# Altium footprint library FootprintsLib.PcbLib: 11 footprints
Each footprint in its own frame and in the unit in brackets; x right, y up, seen from the top. Pads: shape width x height; smd on the part's side, far side on the other; paste and mask are expansions set on the pad; w line width, h text height; cw(c..) or ccw(c..) is an arc to the next point about the centre after c.
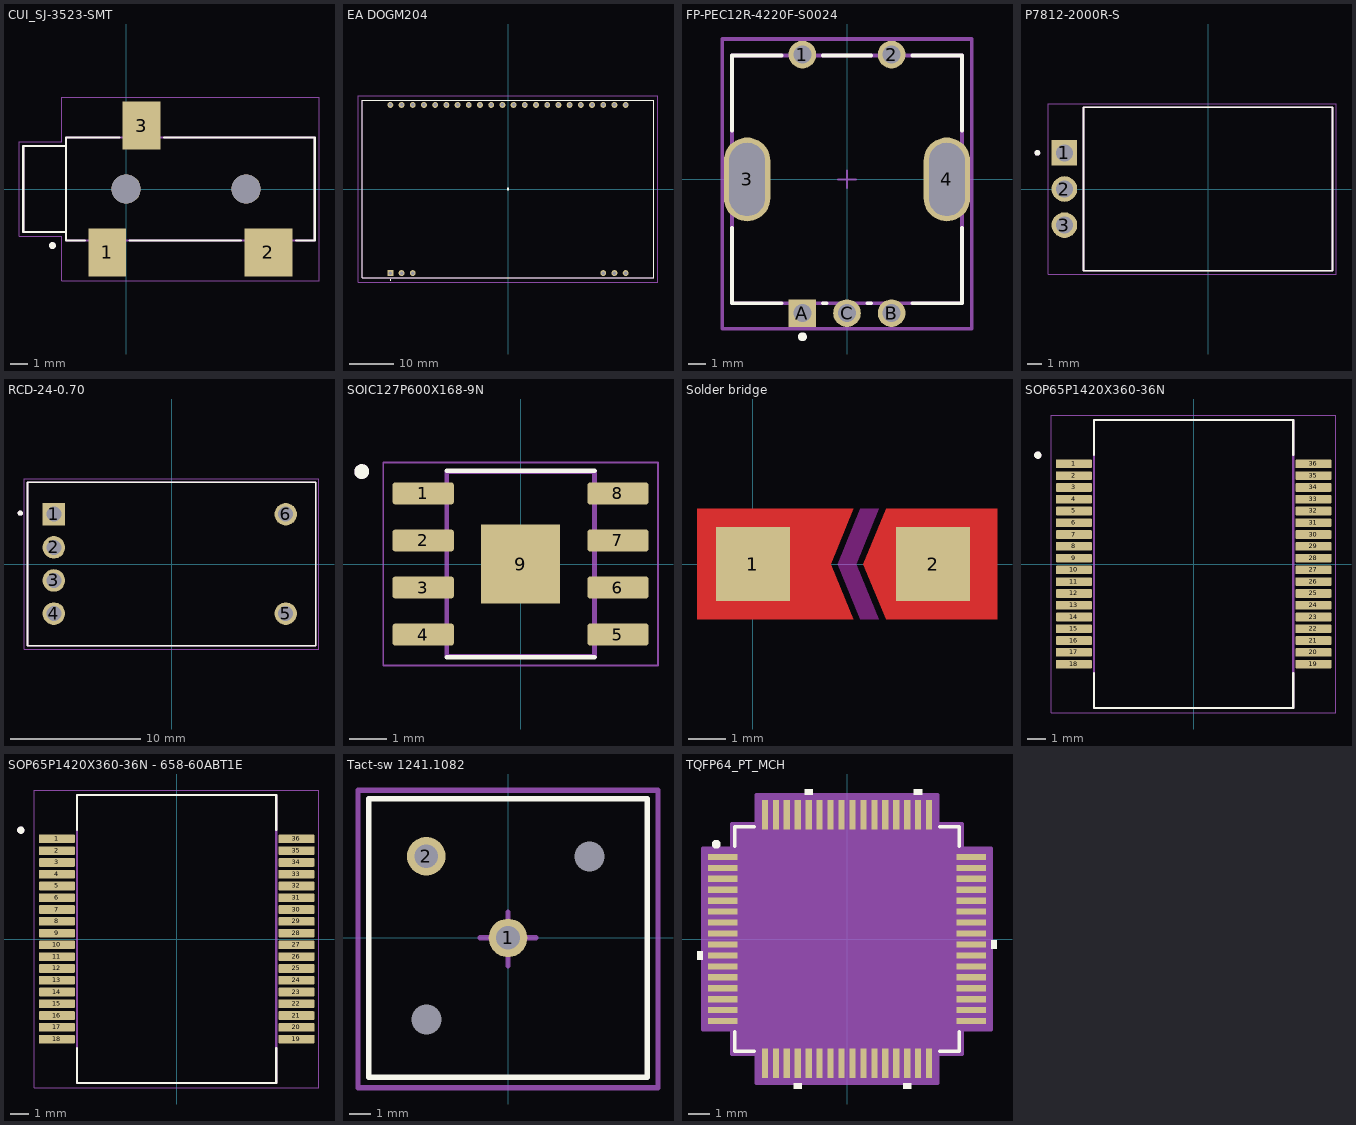
[diagram p0: the footprints below, top view; thin cyan lines are the x and y axes]

## CUI_SJ-3523-SMT [mm]
pads (5):
  rect 2.2x2.8 smd: 1(-1.1,-3.7) 3(0.9,3.7)
  rect 2.8x2.8 smd: 2(8.3,-3.7)
  round 1.7 hole 1.7 unplated: ""(0,0) ""(7,0)
Top Overlay:
  circle w0.2: c-4.3,-3.3 r0.1
  lines w0.127: -2.4,-3 -3.5,-3 -3.5,-2.5 ; -0.4,3 -3.5,3 -3.5,2.5 ; 0.2,-3 6.7,-3 ; 2.2,3 11,3 11,-3 9.9,-3 ; -3.5,-2.5 -6,-2.5 -6,2.5 -3.5,2.5 ; -3.5,-2.5 -3.5,2.5
Mechanical 13:
  circle w0.2: c-4.3,-3.3 r0.1
  lines w0.127: -3.5,-2.5 -6,-2.5 -6,2.5 -3.5,2.5 ; -3.5,-3 11,-3 11,3 -3.5,3 -3.5,-3
Mechanical 15:
  lines w0.05: -6.25,-2.75 -3.75,-2.75 -3.75,-5.35 11.25,-5.35 11.25,5.35 -3.75,5.35 -3.75,2.75 -6.25,2.75 -6.25,-2.75
3D body "SJ-3523-SMT--3DModel-STEP-56544.STEP": height 5.17, standoff -0.63, extent -5.96,-4.428 11.04,4.572

## EA DOGM204 [mm]
pads (28):
  rect 1.337x1.337 hole 0.78: 1(-26.67,-19.05)
  round 1.337 hole 0.78: 2(-24.13,-19.05) 3(-21.59,-19.05) 20(21.59,-19.05) 21(24.13,-19.05) 22(26.67,-19.05) 23(26.67,19.05) 24(24.13,19.05) 25(21.59,19.05) 26(19.05,19.05) 27(16.51,19.05) 28(13.97,19.05) 29(11.43,19.05) 30(8.89,19.05) 31(6.35,19.05) 32(3.81,19.05) 33(1.27,19.05) 34(-1.27,19.05) 35(-3.81,19.05) 36(-6.35,19.05) 37(-8.89,19.05) 38(-11.43,19.05) 39(-13.97,19.05) 40(-16.51,19.05) 41(-19.05,19.05) 42(-21.59,19.05) 43(-24.13,19.05) 44(-26.67,19.05)
Top Overlay:
  circle w0.254: c0,0 r0.203
  lines w0.1: -26.67,-20.65 cw(c-26.67,-20.6) -26.67,-20.55 cw(c-26.67,-20.6) -26.67,-20.65
  lines w0.2: -33,-20.1 -33,20.1 33,20.1 33,-20.1 -33,-20.1
Mechanical 13:
  lines w0.1: -33,-20.1 33,-20.1 33,20.1 -33,20.1 -33,-20.1
Mechanical 15:
  lines w0.1: -34,-21.1 34,-21.1 34,21.1 -34,21.1 -34,-21.1
3D body "User Library-EA DOGM204-A.step": height 5.7, standoff -3.3, extent -32.97,-19.2 33.83,19.35
3D body: height 3.6, standoff 0, extent -33,-18.025 33,17.9

## FP-PEC12R-4220F-S0024 [mm] "PEC12 OEDNI-50-3-7 knob"
pads (7):
  round 1.55 hole 1 paste-1000 mask+0: 1(-2.5,7) 2(2.5,7) B(2.5,-7.5) C(0,-7.5)
  rrect100% 2.6x4.7 hole 4.1 slot 2 at 0 deg paste-1000 mask+0: 3(-5.6,0) 4(5.6,0)
  rect 1.55x1.55 hole 1 paste-1000 mask+0: A(-2.5,-7.5)
Top Overlay:
  circle w0.25: c-2.5,-8.825 r0.125
  lines w0.2: -6.45,-2.725 -6.45,-6.95 -3.65,-6.95 ; -6.45,2.725 -6.45,6.95 -3.65,6.95 ; -1.35,-6.95 -1.15,-6.95 ; -1.35,6.95 1.35,6.95 ; 1.15,-6.95 1.35,-6.95 ; 3.65,-6.95 6.45,-6.95 6.45,-2.725 ; 3.65,6.95 6.45,6.95 6.45,2.725
Top Assembly:
  lines w0.2: -7,-8.375 7,-8.375 7,7.875 -7,7.875 -7,-8.375
  text ".Designator" at 0,-0.062 h1
Top Courtyard:
  lines w0.2: -7,-8.375 7,-8.375 7,7.875 -7,7.875 -7,-8.375
Top 3D Body:
  lines w0.2: -6.45,-6.95 6.45,-6.95 6.45,6.95 -6.45,6.95 -6.45,-6.95
Top Component Center:
  lines w0.1: -0.5,0 0.5,0 ; 0,-0.5 0,0.5
3D body "OEDNI-50-3-7.step": height 23.49, standoff 7.62, extent -6.35,-6.35 6.35,6.35
3D body "Enc_Bourns_PEC12R-4220F-S0024_eec.STEP": height 0.25, standoff 0, extent -7,-8.375 7,7.875

## P7812-2000R-S [mm]
pads (3):
  rect 1.8x1.8 / inner round 1.8 / far side rect 1.8x1.8 hole 1.2: 1(-10.1,2.54)
  round 1.8 hole 1.2: 2(-10.1,0) 3(-10.1,-2.54)
Top Overlay:
  circle w0.2: c-12,2.54 r0.1
  lines w0.127: -8.75,-5.75 -8.75,5.75 8.75,5.75 8.75,-5.75 -8.75,-5.75
Mechanical 13:
  circle w0.2: c-12,2.54 r0.1
  lines w0.127: -8.75,-5.75 -8.75,5.75 8.75,5.75 8.75,-5.75 -8.75,-5.75
Mechanical 15:
  lines w0.05: -11.25,-6 -11.25,6 9,6 9,-6 -11.25,-6
3D body "CUI_P7805-2000R-S.step": height 9.05, standoff -4.06, extent -10.25,-5.75 8.75,5.75

## RCD-24-0.70 [mm]
pads (6):
  rect 1.725x1.725 hole 1.15: 1(-9.03,3.815)
  round 1.725 hole 1.15: 2(-9.03,1.275) 3(-9.03,-1.265) 4(-9.03,-3.805) 5(8.75,-3.805) 6(8.75,3.815)
Top Overlay:
  circle w0.2: c-11.6,3.9 r0.1
  lines w0.127: -11.05,-6.275 11.05,-6.275 11.05,6.275 -11.05,6.275 -11.05,-6.275
Mechanical 13:
  circle w0.2: c-11.6,3.9 r0.1
  lines w0.127: -11.05,-6.275 -11.05,6.275 11.05,6.275 11.05,-6.275 -11.05,-6.275
Mechanical 15:
  lines w0.05: -11.3,-6.525 11.3,-6.525 11.3,6.525 -11.3,6.525 -11.3,-6.525
3D body "RCD-24-0.70--3DModel-STEP-1.STEP": height 8.5, standoff -4.1, extent -11.05,-6.275 11.05,6.275

## SOIC127P600X168-9N [mm]
pads (9):
  rrect25% 1.66x0.59 smd: 1(-2.63,1.905) 2(-2.63,0.635) 3(-2.63,-0.635) 4(-2.63,-1.905) 5(2.63,-1.905) 6(2.63,-0.635) 7(2.63,0.635) 8(2.63,1.905)
  rect 2.135x2.135 smd paste-0.533: 9(0,0)
Top Overlay:
  circle w0.2: c-4.29,2.495 r0.1
  lines w0.127: -1.995,-2.52 1.995,-2.52 ; -1.995,2.52 1.995,2.52
Mechanical 13:
  circle w0.2: c-4.29,2.495 r0.1
  lines w0.127: -1.995,-2.49 -1.995,2.49 1.995,2.49 1.995,-2.49 -1.995,-2.49
Mechanical 15:
  lines w0.05: -3.71,-2.74 -3.71,2.74 3.71,2.74 3.71,-2.74 -3.71,-2.74
3D body "step_temp.STEP": height 1.68, standoff 0, extent -3.003,-2.445 3.003,2.445

## Solder bridge [mm]
pads (2):
  rect 2x2 smd paste-2539.97: 1(0,0)
  rect 2x2 smd paste+0: 2(4.875,0)
Top Layer:
  region: 6.6,1.5 6.6,-1.5 3.599,-1.5 2.987,0 3.599,1.5
  region: -1.512,1.5 -1.512,-1.5 2.713,-1.5 2.1,0 2.713,1.5
  region: 3.774,-1.5 3.774,1.5 3.724,1.5 3.112,0 3.724,-1.5
Top Layer keep-out:
  region: 2.9,1.5 3.4,1.5 2.8,0 2.3,0
  region: 2.9,-1.5 3.4,-1.5 2.8,0 2.3,0

## SOP65P1420X360-36N [mm]
pads (36):
  rrect25% 1.99x0.48 smd: 1(-6.61,5.525) 2(-6.61,4.875) 3(-6.61,4.225) 4(-6.61,3.575) 5(-6.61,2.925) 6(-6.61,2.275) 7(-6.61,1.625) 8(-6.61,0.975) 9(-6.61,0.325) 10(-6.61,-0.325) 11(-6.61,-0.975) 12(-6.61,-1.625) 13(-6.61,-2.275) 14(-6.61,-2.925) 15(-6.61,-3.575) 16(-6.61,-4.225) 17(-6.61,-4.875) 18(-6.61,-5.525) 19(6.61,-5.525) 20(6.61,-4.875) 21(6.61,-4.225) 22(6.61,-3.575) 23(6.61,-2.925) 24(6.61,-2.275) 25(6.61,-1.625) 26(6.61,-0.975) 27(6.61,-0.325) 28(6.61,0.325) 29(6.61,0.975) 30(6.61,1.625) 31(6.61,2.275) 32(6.61,2.925) 33(6.61,3.575) 34(6.61,4.225) 35(6.61,4.875) 36(6.61,5.525)
Top Overlay:
  circle w0.2: c-8.6,6.005 r0.1
  lines w0.127: -5.5,-6.02 -5.5,-7.95 5.5,-7.95 5.5,-6.02 ; -5.5,6.02 -5.5,7.95 5.5,7.95 5.5,6.02
Mechanical 13:
  circle w0.2: c-8.6,6.005 r0.1
  lines w0.127: -5.5,-7.95 -5.5,7.95 5.5,7.95 5.5,-7.95 -5.5,-7.95
Mechanical 15:
  lines w0.05: -7.855,-8.2 -7.855,8.2 7.855,8.2 7.855,-8.2 -7.855,-8.2
3D body "DRV8432DKDR--3DModel-STEP-56544.STEP": height 3.6, standoff 0, extent -7.075,-7.95 7.125,7.95

## SOP65P1420X360-36N - 658-60ABT1E [mm] "With heat sink 658-60ABT1E"
pads (36):
  rrect25% 1.99x0.48 smd: 1(-6.61,5.525) 2(-6.61,4.875) 3(-6.61,4.225) 4(-6.61,3.575) 5(-6.61,2.925) 6(-6.61,2.275) 7(-6.61,1.625) 8(-6.61,0.975) 9(-6.61,0.325) 10(-6.61,-0.325) 11(-6.61,-0.975) 12(-6.61,-1.625) 13(-6.61,-2.275) 14(-6.61,-2.925) 15(-6.61,-3.575) 16(-6.61,-4.225) 17(-6.61,-4.875) 18(-6.61,-5.525) 19(6.61,-5.525) 20(6.61,-4.875) 21(6.61,-4.225) 22(6.61,-3.575) 23(6.61,-2.925) 24(6.61,-2.275) 25(6.61,-1.625) 26(6.61,-0.975) 27(6.61,-0.325) 28(6.61,0.325) 29(6.61,0.975) 30(6.61,1.625) 31(6.61,2.275) 32(6.61,2.925) 33(6.61,3.575) 34(6.61,4.225) 35(6.61,4.875) 36(6.61,5.525)
Top Overlay:
  circle w0.2: c-8.6,6.005 r0.1
  lines w0.127: -5.5,-6.02 -5.5,-7.95 5.5,-7.95 5.5,-6.02 ; -5.5,6.02 -5.5,7.95 5.5,7.95 5.5,6.02
Mechanical 13:
  circle w0.2: c-8.6,6.005 r0.1
  lines w0.127: -5.5,-7.95 5.5,-7.95 5.5,7.95 -5.5,7.95 -5.5,-7.95
Mechanical 15:
  lines w0.05: -7.855,-8.2 7.855,-8.2 7.855,8.2 -7.855,8.2 -7.855,-8.2
3D body "CUI_DEVICES_HSB06-181810.step": height 13.5, standoff 3.5, extent -9,-9 9,9
3D body "DRV8432DKDR--3DModel-STEP-56544.STEP": height 3.6, standoff 0, extent -7.075,-7.95 7.125,7.95

## Tact-sw 1241.1082 [mm]
pads (4):
  round 1.8 hole 1.1: 1(0,0) 2(-3.81,3.81)
  round 0 hole 1.4 unplated: 16(-3.81,-3.81) 16(3.81,3.81)
Top Overlay:
  lines w0.254: -6.5,-6.5 -6.5,6.5 6.5,6.5 6.5,-6.5 -6.5,-6.5
Mechanical 15:
  lines w0.254: -1.3,0 1.3,0 ; 0,-1.3 0,1.2 ; -7,-7 -7,6.9 7,6.9 7,-7 -7,-7
3D body "Schurter blue 1241.1082.4.STEP": height 10.75, standoff -3.2, extent -6.325,-6.325 6.325,6.325
3D body: height 17, standoff 11, extent -4.75,-4.747 4.75,4.747

## TQFP64_PT_MCH [mm]
pads (64):
  rect 1.341x0.279 smd paste+0 mask+0: 1(-5.674,3.75) 2(-5.674,3.25) 3(-5.674,2.75) 4(-5.674,2.25) 5(-5.674,1.75) 6(-5.674,1.25) 7(-5.674,0.75) 8(-5.674,0.25) 9(-5.674,-0.25) 10(-5.674,-0.75) 11(-5.674,-1.25) 12(-5.674,-1.75) 13(-5.674,-2.25) 14(-5.674,-2.75) 15(-5.674,-3.25) 16(-5.674,-3.75) 33(5.674,-3.75) 34(5.674,-3.25) 35(5.674,-2.75) 36(5.674,-2.25) 37(5.674,-1.75) 38(5.674,-1.25) 39(5.674,-0.75) 40(5.674,-0.25) 41(5.674,0.25) 42(5.674,0.75) 43(5.674,1.25) 44(5.674,1.75) 45(5.674,2.25) 46(5.674,2.75) 47(5.674,3.25) 48(5.674,3.75)
  rect 0.279x1.341 smd paste+0 mask+0: 17(-3.75,-5.674) 18(-3.25,-5.674) 19(-2.75,-5.674) 20(-2.25,-5.674) 21(-1.75,-5.674) 22(-1.25,-5.674) 23(-0.75,-5.674) 24(-0.25,-5.674) 25(0.25,-5.674) 26(0.75,-5.674) 27(1.25,-5.674) 28(1.75,-5.674) 29(2.25,-5.674) 30(2.75,-5.674) 31(3.25,-5.674) 32(3.75,-5.674) 49(3.75,5.674) 50(3.25,5.674) 51(2.75,5.674) 52(2.25,5.674) 53(1.75,5.674) 54(1.25,5.674) 55(0.75,5.674) 56(0.25,5.674) 57(-0.25,5.674) 58(-0.75,5.674) 59(-1.25,5.674) 60(-1.75,5.674) 61(-2.25,5.674) 62(-2.75,5.674) 63(-3.25,5.674) 64(-3.75,5.674)
Top Overlay:
  circle w0.254: c-5.975,4.325 r0.075
  region: -1.559,6.598 -1.94,6.598 -1.94,6.852 -1.559,6.852
  region: 3.441,6.598 3.06,6.598 3.06,6.852 3.441,6.852
  region: 6.598,-0.059 6.852,-0.059 6.852,-0.44 6.598,-0.44
  region: 2.94,-6.598 2.559,-6.598 2.559,-6.852 2.94,-6.852
  region: -2.06,-6.598 -2.441,-6.598 -2.441,-6.852 -2.06,-6.852
  region: -6.598,-0.56 -6.852,-0.56 -6.852,-0.941 -6.598,-0.941
  lines w0.152: -5.131,-4.222 -5.131,-5.131 -4.222,-5.131 ; -5.131,4.222 -5.131,5.131 -4.222,5.131 ; 4.222,-5.131 5.131,-5.131 5.131,-4.222 ; 4.222,5.131 5.131,5.131 5.131,4.222
Mechanical 13:
  drawing of 261 lines, arcs and shapes, not listed
  text "*" at -4.94,3.365 h1.27
Mechanical 15:
  region: -4.144,-5.258 -5.258,-5.258 -5.258,-4.144 -6.598,-4.144 -6.598,4.144 -5.258,4.144 -5.258,5.258 -4.144,5.258 -4.144,6.598 4.144,6.598 4.144,5.258 5.258,5.258 5.258,4.144 6.598,4.144 6.598,-4.144 5.258,-4.144 5.258,-5.258 4.144,-5.258 4.144,-6.598 -4.144,-6.598
  lines w0.152: -6.598,-4.144 -6.598,4.144 -5.258,4.144 -5.258,5.258 -4.144,5.258 -4.144,6.598 4.144,6.598 4.144,5.258 5.258,5.258 5.258,4.144 6.598,4.144 6.598,-4.144 5.258,-4.144 5.258,-5.258 4.144,-5.258 4.144,-6.598 -4.144,-6.598 -4.144,-5.258 -5.258,-5.258 -5.258,-4.144 -6.598,-4.144
3D body "TQFP64_PT_MCH.step": height 1.2, standoff 0, extent -5.994,-5.994 5.994,5.994